# Altium integrated library TI_Logic_Little_Logic.IntLib: 1164 symbols (part 23 of 35)
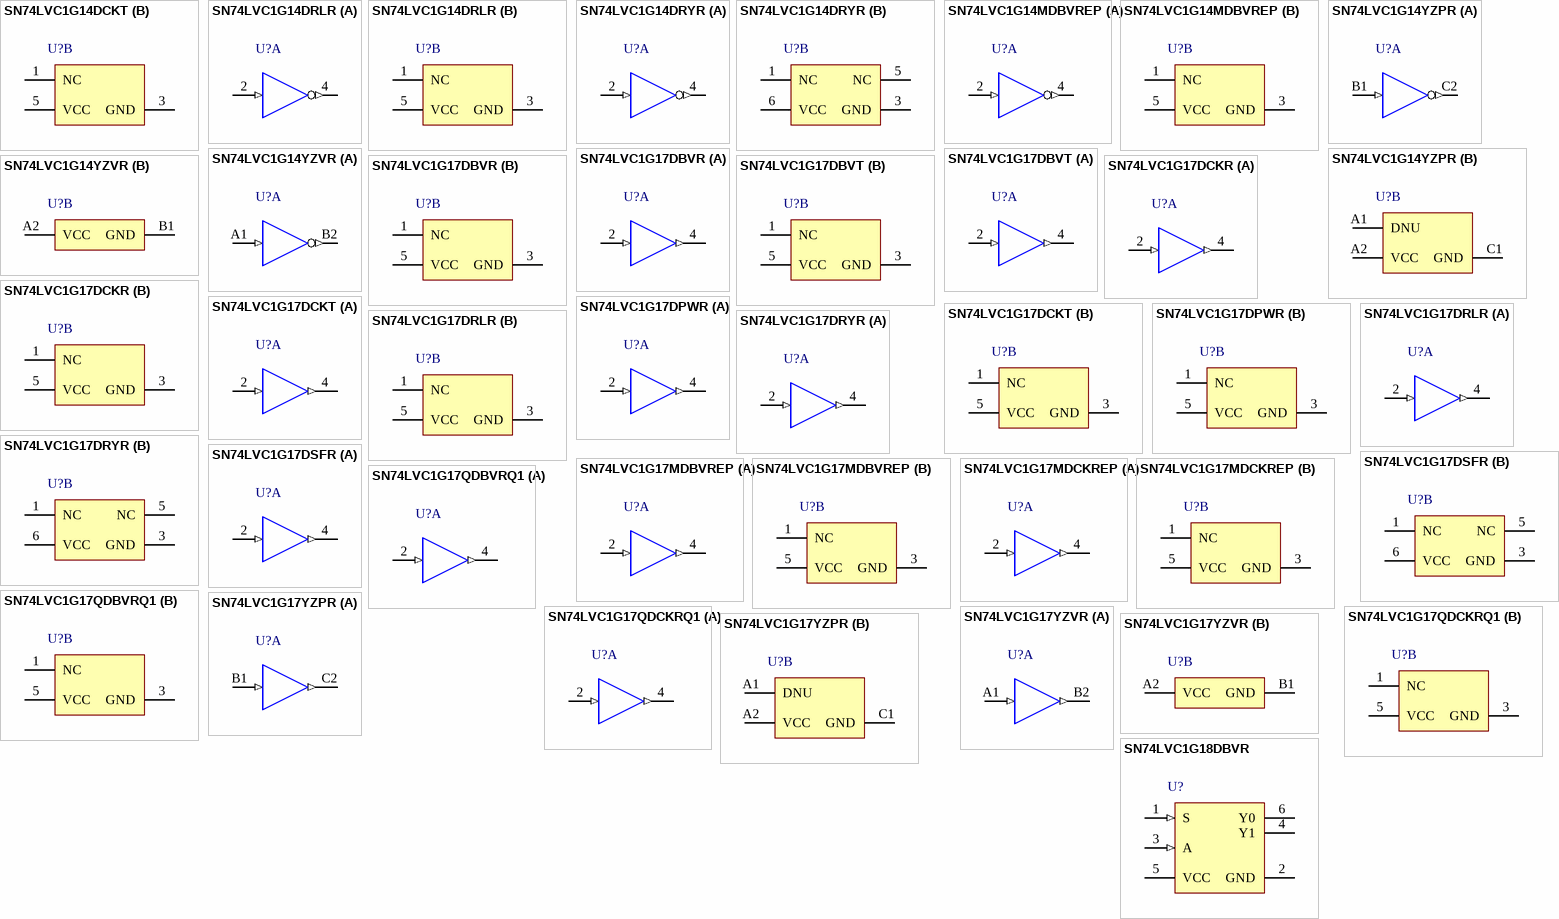
[diagram p82: symbols SN74LVC1G14DCKT to SN74LVC1G18DBVR]

## SN74LVC1G17DCKR
designator U?
Single Schmitt-Trigger Buffer, DCK0005A, LARGE T&R; Generic Part Number: SN74LVC1G17; Manufacturer: Texas Instruments; PartNumber: SN74LVC1G17DCKR; VCC(Min)(V): 1.65; VCC(Max)(V): 5.5; Output Type: CMOS; ICC @ Nom Voltage(Max)(mA): 0.01; Input Type: CMOS/TTL; Bits(#): 1; F @ Nom Voltage(Max)(Mhz): 150; Rating: Catalog; Technology Family: LVC; Voltage(Nom)(V): 1.8,2.5,3.3,5; Schmitt Trigger: Yes; Output Drive (IOL/IOH)(Max)(mA): 32/-32; tpd @ Nom Voltage(Max)(ns): 11,6.5,5.5,5; Logic: True; Sub-Family: Non-Inverting Buffer/Driver; 3-State Output: No; DatasheetVersion: SCES351V; PackageReference: DCK0005A; Supplier 1: Mouser; Supplier Part Number 1: 595-SN74LVC1G17DCKR; Supplier 2: Digi-Key; Supplier Part Number 2: 296-11934-2-ND; Supplier 3: Digi-Key; Supplier Part Number 3: 296-11934-1-ND; Supplier 4: Digi-Key; Supplier Part Number 4: 296-11934-6-ND; Operating Temperature Range(C): -40 to 125,-40 to 85; ComponentLink1Description: Manufacturer URL; ComponentLink1URL: http://www.ti.com/; ComponentLink2Description: Datasheet; ComponentLink2URL: http://www.ti.com/lit/ds/symlink/sn74lvc1g17.pdf
footprint DCK0005A_N (SOT23, 5-Leads, Body 2.15x1.4mm, Pitch 0.65mm, IPC Medium Density)
footprint DCK0005A_M (SOT23, 5-Leads, Body 2.15x1.4mm, Pitch 0.65mm, IPC Low Density)
footprint DCK0005A_L (SOT23, 5-Leads, Body 2.15x1.4mm, Pitch 0.65mm, IPC High Density)
part A pins: 2 A (in) "Input", 4 Y (out) "Output"
part B pins: 1 NC "Ground", 3 GND (power) "Ground Pin", 5 VCC (power) "Power Pin"

## SN74LVC1G17DCKT
designator U?
Single Schmitt-Trigger Buffer, DCK0005A, SMALL T&R; Generic Part Number: SN74LVC1G17; Manufacturer: Texas Instruments; PartNumber: SN74LVC1G17DCKT; VCC(Min)(V): 1.65; VCC(Max)(V): 5.5; Output Type: CMOS; ICC @ Nom Voltage(Max)(mA): 0.01; Input Type: CMOS/TTL; Bits(#): 1; F @ Nom Voltage(Max)(Mhz): 150; Rating: Catalog; Technology Family: LVC; Voltage(Nom)(V): 1.8,2.5,3.3,5; Schmitt Trigger: Yes; Output Drive (IOL/IOH)(Max)(mA): 32/-32; tpd @ Nom Voltage(Max)(ns): 11,6.5,5.5,5; Logic: True; Sub-Family: Non-Inverting Buffer/Driver; 3-State Output: No; DatasheetVersion: SCES351V; PackageReference: DCK0005A; Supplier 1: Mouser; Supplier Part Number 1: 595-SN74LVC1G17DCKT; Supplier 2: Digi-Key; Supplier Part Number 2: 296-26600-2-ND; Supplier 3: Digi-Key; Supplier Part Number 3: 296-26600-1-ND; Supplier 4: Digi-Key; Supplier Part Number 4: 296-26600-6-ND; Operating Temperature Range(C): -40 to 125,-40 to 85; ComponentLink1Description: Manufacturer URL; ComponentLink1URL: http://www.ti.com/; ComponentLink2Description: Datasheet; ComponentLink2URL: http://www.ti.com/lit/ds/symlink/sn74lvc1g17.pdf
footprint DCK0005A_N (SOT23, 5-Leads, Body 2.15x1.4mm, Pitch 0.65mm, IPC Medium Density)
footprint DCK0005A_M (SOT23, 5-Leads, Body 2.15x1.4mm, Pitch 0.65mm, IPC Low Density)
footprint DCK0005A_L (SOT23, 5-Leads, Body 2.15x1.4mm, Pitch 0.65mm, IPC High Density)
part A pins: 2 A (in) "Input", 4 Y (out) "Output"
part B pins: 1 NC "Ground", 3 GND (power) "Ground Pin", 5 VCC (power) "Power Pin"

## SN74LVC1G17DPWR
designator U?
Single Schmitt-Trigger Buffer, DPW0004A, LARGE T&R; Generic Part Number: SN74LVC1G17; Manufacturer: Texas Instruments; PartNumber: SN74LVC1G17DPWR; VCC(Min)(V): 1.65; VCC(Max)(V): 5.5; Output Type: CMOS; ICC @ Nom Voltage(Max)(mA): 0.01; Input Type: CMOS/TTL; Bits(#): 1; F @ Nom Voltage(Max)(Mhz): 150; Rating: Catalog; Technology Family: LVC; Voltage(Nom)(V): 1.8,2.5,3.3,5; Schmitt Trigger: Yes; Output Drive (IOL/IOH)(Max)(mA): 32/-32; tpd @ Nom Voltage(Max)(ns): 11,6.5,5.5,5; Logic: True; Sub-Family: Non-Inverting Buffer/Driver; 3-State Output: No; DatasheetVersion: SCES351V; PackageReference: DPW0004A; Supplier 1: Mouser; Supplier Part Number 1: 595-SN74LVC1G17DPWR; Supplier 2: Digi-Key; Supplier Part Number 2: 296-40550-2-ND; Supplier 3: Digi-Key; Supplier Part Number 3: 296-40550-1-ND; Supplier 4: Digi-Key; Supplier Part Number 4: 296-40550-6-ND; Operating Temperature Range(C): -40 to 125,-40 to 85; ComponentLink1Description: Manufacturer URL; ComponentLink1URL: http://www.ti.com/; ComponentLink2Description: Datasheet; ComponentLink2URL: http://www.ti.com/lit/ds/symlink/sn74lvc1g17.pdf
footprint DPW0004A_V (SON, 5-Leads, Body 0.8x0.8mm, TI Recommend)
part A pins: 2 A (in) "Input", 4 Y (out) "Output"
part B pins: 1 NC "Ground", 3 GND (power) "Ground Pin", 5 VCC (power) "Power Pin"

## SN74LVC1G17DRLR
designator U?
Single Schmitt-Trigger Buffer, DRL0005A, LARGE T&R; Generic Part Number: SN74LVC1G17; Manufacturer: Texas Instruments; PartNumber: SN74LVC1G17DRLR; VCC(Min)(V): 1.65; VCC(Max)(V): 5.5; Output Type: CMOS; ICC @ Nom Voltage(Max)(mA): 0.01; Input Type: CMOS/TTL; Bits(#): 1; F @ Nom Voltage(Max)(Mhz): 150; Rating: Catalog; Technology Family: LVC; Voltage(Nom)(V): 1.8,2.5,3.3,5; Schmitt Trigger: Yes; Output Drive (IOL/IOH)(Max)(mA): 32/-32; tpd @ Nom Voltage(Max)(ns): 11,6.5,5.5,5; Logic: True; Sub-Family: Non-Inverting Buffer/Driver; 3-State Output: No; DatasheetVersion: SCES351V; PackageReference: DRL0005A; Supplier 1: Mouser; Supplier Part Number 1: 595-SN74LVC1G17DRLR; Supplier 2: Digi-Key; Supplier Part Number 2: 296-18585-2-ND; Supplier 3: Digi-Key; Supplier Part Number 3: 296-18585-1-ND; Supplier 4: Digi-Key; Supplier Part Number 4: 296-18585-6-ND; Operating Temperature Range(C): -40 to 125,-40 to 85; ComponentLink1Description: Manufacturer URL; ComponentLink1URL: http://www.ti.com/; ComponentLink2Description: Datasheet; ComponentLink2URL: http://www.ti.com/lit/ds/symlink/sn74lvc1g17.pdf
footprint DRL0005A_N (SOT23, 5-Leads, Body 1.7x1.3mm, Pitch 0.5mm, IPC Medium Density)
footprint DRL0005A_M (SOT23, 5-Leads, Body 1.7x1.3mm, Pitch 0.5mm, IPC Low Density)
footprint DRL0005A_L (SOT23, 5-Leads, Body 1.7x1.3mm, Pitch 0.5mm, IPC High Density)
part A pins: 2 A (in) "Input", 4 Y (out) "Output"
part B pins: 1 NC "Ground", 3 GND (power) "Ground Pin", 5 VCC (power) "Power Pin"

## SN74LVC1G17DRYR
designator U?
Single Schmitt-Trigger Buffer, DRY0006A, LARGE T&R; Generic Part Number: SN74LVC1G17; Manufacturer: Texas Instruments; PartNumber: SN74LVC1G17DRYR; VCC(Min)(V): 1.65; VCC(Max)(V): 5.5; Output Type: CMOS; ICC @ Nom Voltage(Max)(mA): 0.01; Input Type: CMOS/TTL; Bits(#): 1; F @ Nom Voltage(Max)(Mhz): 150; Rating: Catalog; Technology Family: LVC; Voltage(Nom)(V): 1.8,2.5,3.3,5; Schmitt Trigger: Yes; Output Drive (IOL/IOH)(Max)(mA): 32/-32; tpd @ Nom Voltage(Max)(ns): 11,6.5,5.5,5; Logic: True; Sub-Family: Non-Inverting Buffer/Driver; 3-State Output: No; DatasheetVersion: SCES351V; PackageReference: DRY0006A; Supplier 1: Mouser; Supplier Part Number 1: 595-SN74LVC1G17DRYR; Supplier 2: Digi-Key; Supplier Part Number 2: 296-21546-2-ND; Supplier 3: Digi-Key; Supplier Part Number 3: 296-21546-1-ND; Supplier 4: Digi-Key; Supplier Part Number 4: 296-21546-6-ND; Operating Temperature Range(C): -40 to 125,-40 to 85; ComponentLink1Description: Manufacturer URL; ComponentLink1URL: http://www.ti.com/; ComponentLink2Description: Datasheet; ComponentLink2URL: http://www.ti.com/lit/ds/symlink/sn74lvc1g17.pdf
footprint DRY0006A_V (SON, 6-Leads, Body 1.45x1mm, Pitch 0.5mm)
part A pins: 2 A (in) "Input", 4 Y (out) "Output"
part B pins: 1 NC "Not connected", 3 GND (power) "Ground", 5 NC "Not connected", 6 VCC (power) "Power pin"

## SN74LVC1G17DSFR
designator U?
Single Schmitt-Trigger Buffer, DSF0006A, LARGE T&R; Generic Part Number: SN74LVC1G17; Manufacturer: Texas Instruments; PartNumber: SN74LVC1G17DSFR; VCC(Min)(V): 1.65; VCC(Max)(V): 5.5; Output Type: CMOS; ICC @ Nom Voltage(Max)(mA): 0.01; Input Type: CMOS/TTL; Bits(#): 1; F @ Nom Voltage(Max)(Mhz): 150; Rating: Catalog; Technology Family: LVC; Voltage(Nom)(V): 1.8,2.5,3.3,5; Schmitt Trigger: Yes; Output Drive (IOL/IOH)(Max)(mA): 32/-32; tpd @ Nom Voltage(Max)(ns): 11,6.5,5.5,5; Logic: True; Sub-Family: Non-Inverting Buffer/Driver; 3-State Output: No; DatasheetVersion: SCES351V; PackageReference: DSF0006A; Supplier 1: Mouser; Supplier Part Number 1: 595-SN74LVC1G17DSFR; Supplier 2: Digi-Key; Supplier Part Number 2: 296-29050-2-ND; Supplier 3: Digi-Key; Supplier Part Number 3: 296-29050-1-ND; Supplier 4: Digi-Key; Supplier Part Number 4: 296-29050-6-ND; Operating Temperature Range(C): -40 to 125,-40 to 85; ComponentLink1Description: Manufacturer URL; ComponentLink1URL: http://www.ti.com/; ComponentLink2Description: Datasheet; ComponentLink2URL: http://www.ti.com/lit/ds/symlink/sn74lvc1g17.pdf
footprint DSF0006A_V (SON, 6-Leads, Body 1x1mm, Pitch 0.35mm, TI Recommend)
part A pins: 2 A (in) "Input", 4 Y (out) "Output"
part B pins: 1 NC "Not connected", 3 GND (power) "Ground", 5 NC "Not connected", 6 VCC (power) "Power pin"

## SN74LVC1G17MDBVREP
designator U?
Enhanced Product Single Schmitt-Trigger Buffer, DBV0005A, LARGE T&R; Generic Part Number: SN74LVC1G17-EP; Manufacturer: Texas Instruments; PartNumber: SN74LVC1G17MDBVREP; VCC(Min)(V): 1.65; VCC(Max)(V): 6.5; Output Type: CMOS; ICC @ Nom Voltage(Max)(mA): 0.01; Input Type: CMOS/TTL; Bits(#): 1; F @ Nom Voltage(Max)(Mhz): 150; Rating: HiRel Enhanced Product; Technology Family: LVC; Voltage(Nom)(V): 1.8,2.5,3.3,5; Schmitt Trigger: Yes; Output Drive (IOL/IOH)(Max)(mA): 32/-32; tpd @ Nom Voltage(Max)(ns): 11,6.5,5.5,5; Logic: True; Sub-Family: Non-Inverting Buffer/Driver; 3-State Output: No; DatasheetVersion: SGLS336A; PackageReference: DBV0005A; Supplier 1: Mouser; Supplier Part Number 1: 595-74LVC1G17MDBVREP; Supplier 2: Digi-Key; Supplier Part Number 2: 296-21818-2-ND; Supplier 3: Digi-Key; Supplier Part Number 3: 296-21818-1-ND; Supplier 4: Digi-Key; Supplier Part Number 4: 296-21818-6-ND; Operating Temperature Range(C): -55 to 125; ComponentLink1Description: Manufacturer URL; ComponentLink1URL: http://www.ti.com/; ComponentLink2Description: Datasheet; ComponentLink2URL: http://www.ti.com/lit/ds/symlink/sn74lvc1g17-ep.pdf
footprint DBV0005A_N (SOT23, 5-Leads, Body 3.05x1.75mm, Pitch 0.95mm, IPC Medium Density)
footprint DBV0005A_M (SOT23, 5-Leads, Body 3.05x1.75mm, Pitch 0.95mm, IPC Low Density)
footprint DBV0005A_L (SOT23, 5-Leads, Body 3.05x1.75mm, Pitch 0.95mm, IPC High Density)
part A pins: 2 A (in) "Input", 4 Y (out) "Output"
part B pins: 1 NC "Ground", 3 GND (power) "Ground Pin", 5 VCC (power) "Power Pin"

## SN74LVC1G17MDCKREP
designator U?
Enhanced Product Single Schmitt-Trigger Buffer, DCK0005A, LARGE T&R; Generic Part Number: SN74LVC1G17-EP; Manufacturer: Texas Instruments; PartNumber: SN74LVC1G17MDCKREP; VCC(Min)(V): 1.65; VCC(Max)(V): 6.5; Output Type: CMOS; ICC @ Nom Voltage(Max)(mA): 0.01; Input Type: CMOS/TTL; Bits(#): 1; F @ Nom Voltage(Max)(Mhz): 150; Rating: HiRel Enhanced Product; Technology Family: LVC; Voltage(Nom)(V): 1.8,2.5,3.3,5; Schmitt Trigger: Yes; Output Drive (IOL/IOH)(Max)(mA): 32/-32; tpd @ Nom Voltage(Max)(ns): 11,6.5,5.5,5; Logic: True; Sub-Family: Non-Inverting Buffer/Driver; 3-State Output: No; DatasheetVersion: SGLS336A; PackageReference: DCK0005A; Supplier 1: Mouser; Supplier Part Number 1: 595-74LVC1G17MDCKREP; Supplier 2: Digi-Key; Supplier Part Number 2: 296-20773-2-ND; Supplier 3: Digi-Key; Supplier Part Number 3: 296-20773-1-ND; Supplier 4: Digi-Key; Supplier Part Number 4: 296-20773-6-ND; Operating Temperature Range(C): -55 to 125; ComponentLink1Description: Manufacturer URL; ComponentLink1URL: http://www.ti.com/; ComponentLink2Description: Datasheet; ComponentLink2URL: http://www.ti.com/lit/ds/symlink/sn74lvc1g17-ep.pdf
footprint DCK0005A_N (SOT23, 5-Leads, Body 2.15x1.4mm, Pitch 0.65mm, IPC Medium Density)
footprint DCK0005A_M (SOT23, 5-Leads, Body 2.15x1.4mm, Pitch 0.65mm, IPC Low Density)
footprint DCK0005A_L (SOT23, 5-Leads, Body 2.15x1.4mm, Pitch 0.65mm, IPC High Density)
part A pins: 2 A (in) "Input", 4 Y (out) "Output"
part B pins: 1 NC "Ground", 3 GND (power) "Ground Pin", 5 VCC (power) "Power Pin"

## SN74LVC1G17QDBVRQ1
designator U?
Automotive Catalog Single Schmitt-Trigger Buffer, DBV0005A, LARGE T&R; Generic Part Number: SN74LVC1G17-Q1; Manufacturer: Texas Instruments; PartNumber: SN74LVC1G17QDBVRQ1; VCC(Min)(V): 1.65; VCC(Max)(V): 6.5; Output Type: CMOS; ICC @ Nom Voltage(Max)(mA): 0.02; Input Type: CMOS/TTL; Bits(#): 1; F @ Nom Voltage(Max)(Mhz): 150; Technology Family: LVC; Voltage(Nom)(V): 1.8,2.5,3.3,5; Schmitt Trigger: Yes; Output Drive (IOL/IOH)(Max)(mA): 32/-32; tpd @ Nom Voltage(Max)(ns): 14,9,8,7; Logic: True; Sub-Family: Non-Inverting Buffer/Driver; 3-State Output: No; DatasheetVersion: SCES663A; PackageReference: DBV0005A; Supplier 1: Mouser; Supplier Part Number 1: 595-74LVC1G17QDBVRQ1; Supplier 2: Digi-Key; Supplier Part Number 2: 296-32300-2-ND; Supplier 3: Digi-Key; Supplier Part Number 3: 296-32300-1-ND; Supplier 4: Digi-Key; Supplier Part Number 4: 296-32300-6-ND; Operating Temperature Range(C): -40 to 125; Rating: Automotive; ComponentLink1Description: Manufacturer URL; ComponentLink1URL: http://www.ti.com/; ComponentLink2Description: Datasheet; ComponentLink2URL: http://www.ti.com/lit/ds/symlink/sn74lvc1g17-q1.pdf
footprint DBV0005A_N (SOT23, 5-Leads, Body 3.05x1.75mm, Pitch 0.95mm, IPC Medium Density)
footprint DBV0005A_M (SOT23, 5-Leads, Body 3.05x1.75mm, Pitch 0.95mm, IPC Low Density)
footprint DBV0005A_L (SOT23, 5-Leads, Body 3.05x1.75mm, Pitch 0.95mm, IPC High Density)
part A pins: 2 A (in) "Input", 4 Y (out) "Output"
part B pins: 1 NC "Ground", 3 GND (power) "Ground Pin", 5 VCC (power) "Power Pin"

## SN74LVC1G17QDCKRQ1
designator U?
Automotive Catalog Single Schmitt-Trigger Buffer, DCK0005A, LARGE T&R; Generic Part Number: SN74LVC1G17-Q1; Manufacturer: Texas Instruments; PartNumber: SN74LVC1G17QDCKRQ1; VCC(Min)(V): 1.65; VCC(Max)(V): 6.5; Output Type: CMOS; ICC @ Nom Voltage(Max)(mA): 0.02; Input Type: CMOS/TTL; Bits(#): 1; F @ Nom Voltage(Max)(Mhz): 150; Technology Family: LVC; Voltage(Nom)(V): 1.8,2.5,3.3,5; Schmitt Trigger: Yes; Output Drive (IOL/IOH)(Max)(mA): 32/-32; tpd @ Nom Voltage(Max)(ns): 14,9,8,7; Logic: True; Sub-Family: Non-Inverting Buffer/Driver; 3-State Output: No; DatasheetVersion: SCES663A; PackageReference: DCK0005A; Supplier 1: Mouser; Supplier Part Number 1: 595-74LVC1G17QDCKRQ1; Supplier 2: Digi-Key; Supplier Part Number 2: 296-23709-2-ND; Supplier 3: Digi-Key; Supplier Part Number 3: 296-23709-1-ND; Supplier 4: Digi-Key; Supplier Part Number 4: 296-23709-6-ND; Operating Temperature Range(C): -40 to 125; Rating: Automotive; ComponentLink1Description: Manufacturer URL; ComponentLink1URL: http://www.ti.com/; ComponentLink2Description: Datasheet; ComponentLink2URL: http://www.ti.com/lit/ds/symlink/sn74lvc1g17-q1.pdf
footprint DCK0005A_N (SOT23, 5-Leads, Body 2.15x1.4mm, Pitch 0.65mm, IPC Medium Density)
footprint DCK0005A_M (SOT23, 5-Leads, Body 2.15x1.4mm, Pitch 0.65mm, IPC Low Density)
footprint DCK0005A_L (SOT23, 5-Leads, Body 2.15x1.4mm, Pitch 0.65mm, IPC High Density)
part A pins: 2 A (in) "Input", 4 Y (out) "Output"
part B pins: 1 NC "Ground", 3 GND (power) "Ground Pin", 5 VCC (power) "Power Pin"

## SN74LVC1G17YZPR
designator U?
Single Schmitt-Trigger Buffer, YZP0005ADAD, LARGE T&R; Generic Part Number: SN74LVC1G17; Manufacturer: Texas Instruments; PartNumber: SN74LVC1G17YZPR; VCC(Min)(V): 1.65; VCC(Max)(V): 5.5; Output Type: CMOS; ICC @ Nom Voltage(Max)(mA): 0.01; Input Type: CMOS/TTL; Bits(#): 1; F @ Nom Voltage(Max)(Mhz): 150; Rating: Catalog; Technology Family: LVC; Voltage(Nom)(V): 1.8,2.5,3.3,5; Schmitt Trigger: Yes; Output Drive (IOL/IOH)(Max)(mA): 32/-32; tpd @ Nom Voltage(Max)(ns): 11,6.5,5.5,5; Logic: True; Sub-Family: Non-Inverting Buffer/Driver; 3-State Output: No; DatasheetVersion: SCES351V; PackageReference: YZP0005ADAD; Supplier 1: Mouser; Supplier Part Number 1: 595-SN74LVC1G17YZPR; Supplier 2: Digi-Key; Supplier Part Number 2: 296-18761-2-ND; Supplier 3: Digi-Key; Supplier Part Number 3: 296-18761-1-ND; Operating Temperature Range(C): -40 to 125,-40 to 85; ComponentLink1Description: Manufacturer URL; ComponentLink1URL: http://www.ti.com/; ComponentLink2Description: Datasheet; ComponentLink2URL: http://www.ti.com/lit/ds/symlink/sn74lvc1g17.pdf
footprint YZP0005ADAD (BGA, 5-Balls, Body 1.39x0.89mm, Pitch 0.5mm)
part A pins: B1 A (in) "Input", C2 Y (out) "Output"
part B pins: A1 DNU "Do not use", A2 VCC (power) "Power", C1 GND (power) "Ground"

## SN74LVC1G17YZVR
designator U?
Single Schmitt-Trigger Buffer, YZV0004ADAD, LARGE T&R; Generic Part Number: SN74LVC1G17; Manufacturer: Texas Instruments; PartNumber: SN74LVC1G17YZVR; VCC(Min)(V): 1.65; VCC(Max)(V): 5.5; Output Type: CMOS; ICC @ Nom Voltage(Max)(mA): 0.01; Input Type: CMOS/TTL; Bits(#): 1; F @ Nom Voltage(Max)(Mhz): 150; Rating: Catalog; Technology Family: LVC; Voltage(Nom)(V): 1.8,2.5,3.3,5; Schmitt Trigger: Yes; Output Drive (IOL/IOH)(Max)(mA): 32/-32; tpd @ Nom Voltage(Max)(ns): 11,6.5,5.5,5; Logic: True; Sub-Family: Non-Inverting Buffer/Driver; 3-State Output: No; DatasheetVersion: SCES351V; PackageReference: YZV0004ADAD; Supplier 1: Mouser; Supplier Part Number 1: 595-SN74LVC1G17YZVR; Supplier 2: Digi-Key; Supplier Part Number 2: 296-21060-2-ND; Supplier 3: Digi-Key; Supplier Part Number 3: 296-21060-1-ND; Supplier 4: Digi-Key; Supplier Part Number 4: 296-21060-6-ND; Operating Temperature Range(C): -40 to 125,-40 to 85; ComponentLink1Description: Manufacturer URL; ComponentLink1URL: http://www.ti.com/; ComponentLink2Description: Datasheet; ComponentLink2URL: http://www.ti.com/lit/ds/symlink/sn74lvc1g17.pdf
footprint YZV0004ADAD (BGA, 4-Balls, Body 0.89x0.89mm, Pitch 0.5mm)
part A pins: A1 A (in) "Input", B2 Y (out) "Output"
part B pins: A2 VCC (power) "Power pin", B1 GND (power) "Ground"

## SN74LVC1G18DBVR
designator U?
One of Two Noninverting Demultiplexer with 3-State Deselected Output, DBV0006A, LARGE T&R; Generic Part Number: SN74LVC1G18; Manufacturer: Texas Instruments; PartNumber: SN74LVC1G18DBVR; VCC(Min)(V): 1.65; VCC(Max)(V): 5.5; Output Type: CMOS; ICC @ Nom Voltage(Max)(mA): 0.01; Input Type: CMOS/TTL; Bits(#): 1; F @ Nom Voltage(Max)(Mhz): 150; Rating: Catalog; Technology Family: LVC; Voltage(Nom)(V): 1.8,2.5,3.3,5; Schmitt Trigger: No; Output Drive (IOL/IOH)(Max)(mA): 32/-32; tpd @ Nom Voltage(Max)(ns): 9.3,5,4.2,3.2; Logic: True; Sub-Family: Decoder/Encoder/Multiplexer; DatasheetVersion: SCES406K; PackageReference: DBV0006A; Supplier 1: Mouser; Supplier Part Number 1: 595-SN74LVC1G18DBVR; Supplier 2: Digi-Key; Supplier Part Number 2: 296-15568-2-ND; Supplier 3: Digi-Key; Supplier Part Number 3: 296-15568-1-ND; Supplier 4: Digi-Key; Supplier Part Number 4: 296-15568-6-ND; Operating Temperature Range(C): -40 to 85; Specialty Logic Family: Decoder/Encoder/Multiplexer; 3-State Output: No; ComponentLink1Description: Manufacturer URL; ComponentLink1URL: http://www.ti.com/; ComponentLink2Description: Datasheet; ComponentLink2URL: http://www.ti.com/lit/ds/symlink/sn74lvc1g18.pdf
footprint DBV0006A_N (SOT23, 6-Leads, Body 3.05x1.75mm, Pitch 0.95mm, IPC Medium Density)
footprint DBV0006A_M (SOT23, 6-Leads, Body 3.05x1.75mm, Pitch 0.95mm, IPC Low Density)
footprint DBV0006A_L (SOT23, 6-Leads, Body 3.05x1.75mm, Pitch 0.95mm, IPC High Density)
pins: 1 S (in), 2 GND (power), 3 A (in), 4 Y1 (hiz), 5 VCC (power), 6 Y0 (hiz)

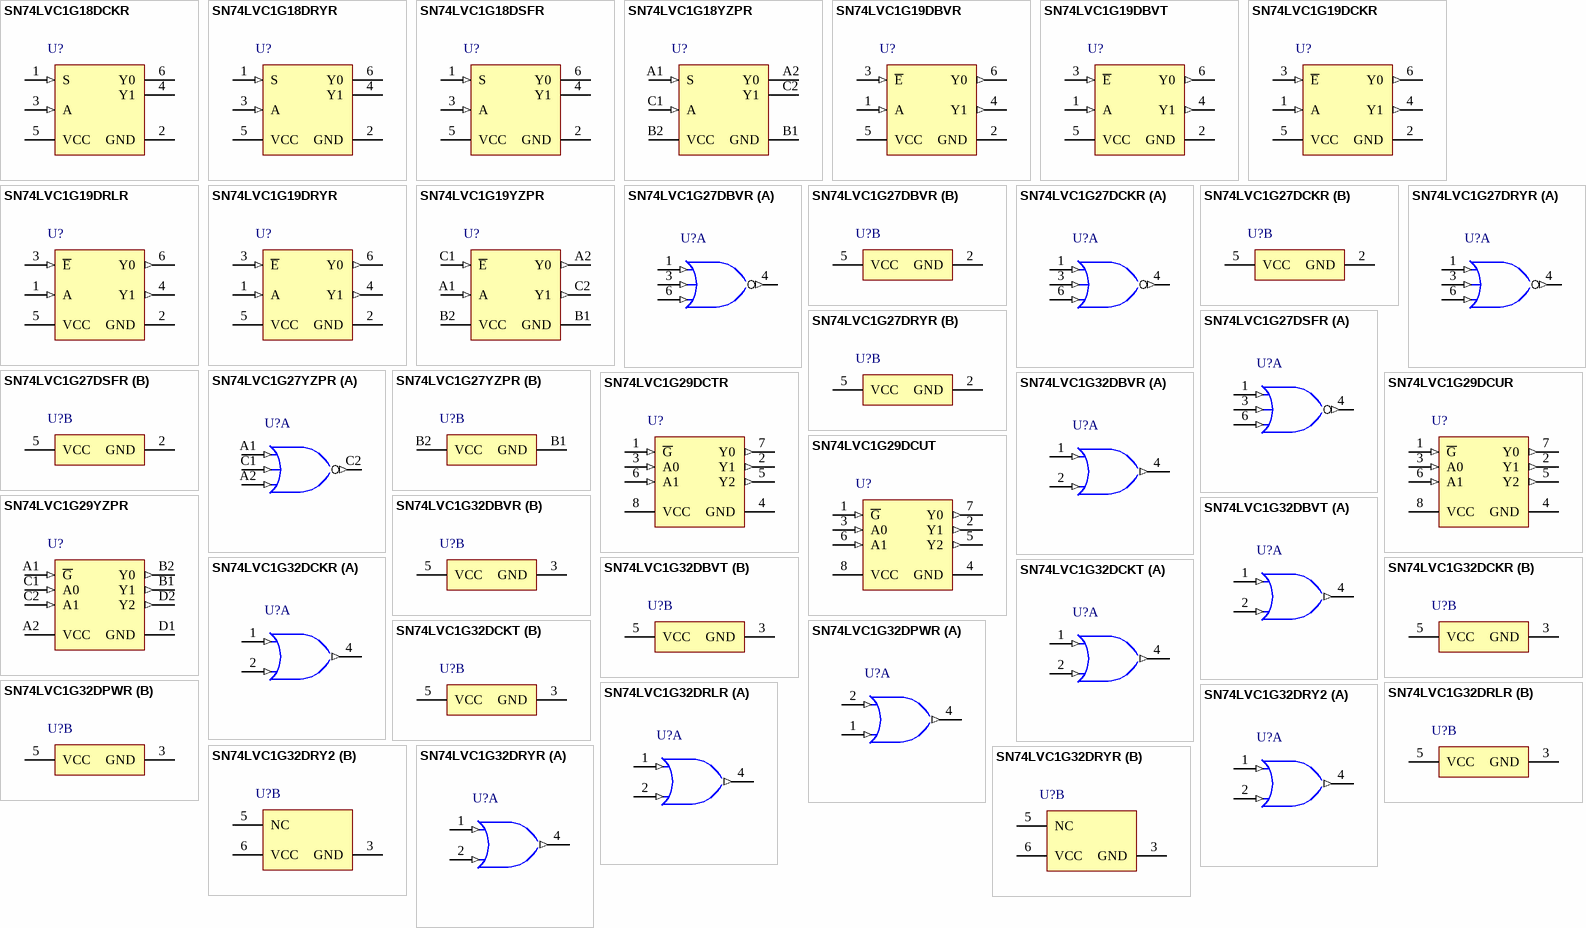
[diagram p39: symbols SN74LVC1G18DCKR to SN74LVC1G32DRYR]

## SN74LVC1G18DCKR
designator U?
One of Two Noninverting Demultiplexer with 3-State Deselected Output, DCK0006A, LARGE T&R; Generic Part Number: SN74LVC1G18; Manufacturer: Texas Instruments; PartNumber: SN74LVC1G18DCKR; VCC(Min)(V): 1.65; VCC(Max)(V): 5.5; Output Type: CMOS; ICC @ Nom Voltage(Max)(mA): 0.01; Input Type: CMOS/TTL; Bits(#): 1; F @ Nom Voltage(Max)(Mhz): 150; Rating: Catalog; Technology Family: LVC; Voltage(Nom)(V): 1.8,2.5,3.3,5; Schmitt Trigger: No; Output Drive (IOL/IOH)(Max)(mA): 32/-32; tpd @ Nom Voltage(Max)(ns): 9.3,5,4.2,3.2; Logic: True; Sub-Family: Decoder/Encoder/Multiplexer; DatasheetVersion: SCES406K; PackageReference: DCK0006A; Supplier 1: Mouser; Supplier Part Number 1: 595-SN74LVC1G18DCKR; Supplier 2: Digi-Key; Supplier Part Number 2: 296-15569-2-ND; Supplier 3: Digi-Key; Supplier Part Number 3: 296-15569-1-ND; Supplier 4: Digi-Key; Supplier Part Number 4: 296-15569-6-ND; Operating Temperature Range(C): -40 to 85; Specialty Logic Family: Decoder/Encoder/Multiplexer; 3-State Output: No; ComponentLink1Description: Manufacturer URL; ComponentLink1URL: http://www.ti.com/; ComponentLink2Description: Datasheet; ComponentLink2URL: http://www.ti.com/lit/ds/symlink/sn74lvc1g18.pdf
footprint DCK0006A_N (SOT23, 6-Leads, Body 2.15x1.4mm, Pitch 0.65mm, IPC Medium Density)
footprint DCK0006A_M (SOT23, 6-Leads, Body 2.15x1.4mm, Pitch 0.65mm, IPC Low Density)
footprint DCK0006A_L (SOT23, 6-Leads, Body 2.15x1.4mm, Pitch 0.65mm, IPC High Density)
pins: 1 S (in), 2 GND (power), 3 A (in), 4 Y1 (hiz), 5 VCC (power), 6 Y0 (hiz)

## SN74LVC1G18DRYR
designator U?
One of Two Noninverting Demultiplexer with 3-State Deselected Output, DRY0006A, LARGE T&R; Generic Part Number: SN74LVC1G18; Manufacturer: Texas Instruments; PartNumber: SN74LVC1G18DRYR; VCC(Min)(V): 1.65; VCC(Max)(V): 5.5; Output Type: CMOS; ICC @ Nom Voltage(Max)(mA): 0.01; Input Type: CMOS/TTL; Bits(#): 1; F @ Nom Voltage(Max)(Mhz): 150; Rating: Catalog; Technology Family: LVC; Voltage(Nom)(V): 1.8,2.5,3.3,5; Schmitt Trigger: No; Output Drive (IOL/IOH)(Max)(mA): 32/-32; tpd @ Nom Voltage(Max)(ns): 9.3,5,4.2,3.2; Logic: True; Sub-Family: Decoder/Encoder/Multiplexer; DatasheetVersion: SCES406K; PackageReference: DRY0006A; Supplier 1: Mouser; Supplier Part Number 1: 595-SN74LVC1G18DRYR; Supplier 2: Digi-Key; Supplier Part Number 2: 296-30526-2-ND; Supplier 3: Digi-Key; Supplier Part Number 3: 296-30526-1-ND; Supplier 4: Digi-Key; Supplier Part Number 4: 296-30526-6-ND; Operating Temperature Range(C): -40 to 85; Specialty Logic Family: Decoder/Encoder/Multiplexer; 3-State Output: No; ComponentLink1Description: Manufacturer URL; ComponentLink1URL: http://www.ti.com/; ComponentLink2Description: Datasheet; ComponentLink2URL: http://www.ti.com/lit/ds/symlink/sn74lvc1g18.pdf
footprint DRY0006A_V (SON, 6-Leads, Body 1.45x1mm, Pitch 0.5mm)
pins: 1 S (in), 2 GND (power), 3 A (in), 4 Y1 (hiz), 5 VCC (power), 6 Y0 (hiz)

## SN74LVC1G18DSFR
designator U?
One of Two Noninverting Demultiplexer with 3-State Deselected Output, DSF0006A, LARGE T&R; Generic Part Number: SN74LVC1G18; Manufacturer: Texas Instruments; PartNumber: SN74LVC1G18DSFR; VCC(Min)(V): 1.65; VCC(Max)(V): 5.5; Output Type: CMOS; ICC @ Nom Voltage(Max)(mA): 0.01; Input Type: CMOS/TTL; Bits(#): 1; F @ Nom Voltage(Max)(Mhz): 150; Rating: Catalog; Technology Family: LVC; Voltage(Nom)(V): 1.8,2.5,3.3,5; Schmitt Trigger: No; Output Drive (IOL/IOH)(Max)(mA): 32/-32; tpd @ Nom Voltage(Max)(ns): 9.3,5,4.2,3.2; Logic: True; Sub-Family: Decoder/Encoder/Multiplexer; DatasheetVersion: SCES406K; PackageReference: DSF0006A; Supplier 1: Mouser; Supplier Part Number 1: 595-SN74LVC1G18DSFR; Supplier 2: Digi-Key; Supplier Part Number 2: 296-30525-2-ND; Supplier 3: Digi-Key; Supplier Part Number 3: 296-30525-1-ND; Supplier 4: Digi-Key; Supplier Part Number 4: 296-30525-6-ND; Operating Temperature Range(C): -40 to 85; Specialty Logic Family: Decoder/Encoder/Multiplexer; 3-State Output: No; ComponentLink1Description: Manufacturer URL; ComponentLink1URL: http://www.ti.com/; ComponentLink2Description: Datasheet; ComponentLink2URL: http://www.ti.com/lit/ds/symlink/sn74lvc1g18.pdf
footprint DSF0006A_V (SON, 6-Leads, Body 1x1mm, Pitch 0.35mm, TI Recommend)
pins: 1 S (in), 2 GND (power), 3 A (in), 4 Y1 (hiz), 5 VCC (power), 6 Y0 (hiz)

## SN74LVC1G18YZPR
designator U?
One of Two Noninverting Demultiplexer with 3-State Deselected Output, YZP0006ADAD, LARGE T&R; Generic Part Number: SN74LVC1G18; Manufacturer: Texas Instruments; PartNumber: SN74LVC1G18YZPR; VCC(Min)(V): 1.65; VCC(Max)(V): 5.5; Output Type: CMOS; ICC @ Nom Voltage(Max)(mA): 0.01; Input Type: CMOS/TTL; Bits(#): 1; F @ Nom Voltage(Max)(Mhz): 150; Rating: Catalog; Technology Family: LVC; Voltage(Nom)(V): 1.8,2.5,3.3,5; Schmitt Trigger: No; Output Drive (IOL/IOH)(Max)(mA): 32/-32; tpd @ Nom Voltage(Max)(ns): 9.3,5,4.2,3.2; Logic: True; Sub-Family: Decoder/Encoder/Multiplexer; DatasheetVersion: SCES406K; PackageReference: YZP0006ADAD; Supplier 1: Mouser; Supplier Part Number 1: 595-SN74LVC1G18YZPR; Supplier 2: Digi-Key; Supplier Part Number 2: 296-25657-2-ND; Supplier 3: Digi-Key; Supplier Part Number 3: 296-25657-1-ND; Supplier 4: Digi-Key; Supplier Part Number 4: 296-25657-6-ND; Operating Temperature Range(C): -40 to 85; Specialty Logic Family: Decoder/Encoder/Multiplexer; 3-State Output: No; ComponentLink1Description: Manufacturer URL; ComponentLink1URL: http://www.ti.com/; ComponentLink2Description: Datasheet; ComponentLink2URL: http://www.ti.com/lit/ds/symlink/sn74lvc1g18.pdf
footprint YZP0006ADAD (BGA, 6-Balls, Body 1.39x0.89mm, Pitch 0.5mm)
pins: A1 S (in), A2 Y0 (hiz), B1 GND (power), B2 VCC (power), C1 A (in), C2 Y1 (hiz)

## SN74LVC1G19DBVR
designator U?
1-of-2 Decoder/Demultiplexer, DBV0006A, LARGE T&R; Generic Part Number: SN74LVC1G19; Manufacturer: Texas Instruments; PartNumber: SN74LVC1G19DBVR; VCC(Min)(V): 1.65; VCC(Max)(V): 5.5; Output Type: CMOS; ICC @ Nom Voltage(Max)(mA): 0.01; Input Type: CMOS/TTL; Bits(#): 1; F @ Nom Voltage(Max)(Mhz): 150; Rating: Catalog; Technology Family: LVC; Voltage(Nom)(V): 1.8,2.5,3.3,5; Schmitt Trigger: No; Output Drive (IOL/IOH)(Max)(mA): 32/-32; tpd @ Nom Voltage(Max)(ns): 16.1,6.5,5.2,3.9; Logic: True; Sub-Family: Decoder/Encoder/Multiplexer; DatasheetVersion: SCES464F; PackageReference: DBV0006A; Supplier 1: Mouser; Supplier Part Number 1: 595-SN74LVC1G19DBVR; Supplier 2: Digi-Key; Supplier Part Number 2: 296-16982-2-ND; Supplier 3: Digi-Key; Supplier Part Number 3: 296-16982-1-ND; Supplier 4: Digi-Key; Supplier Part Number 4: 296-16982-6-ND; Operating Temperature Range(C): -40 to 85; Specialty Logic Family: Decoder/Encoder/Multiplexer; 3-State Output: No; ComponentLink1Description: Manufacturer URL; ComponentLink1URL: http://www.ti.com/; ComponentLink2Description: Datasheet; ComponentLink2URL: http://www.ti.com/lit/ds/symlink/sn74lvc1g19.pdf
footprint DBV0006A_N (SOT23, 6-Leads, Body 3.05x1.75mm, Pitch 0.95mm, IPC Medium Density)
footprint DBV0006A_M (SOT23, 6-Leads, Body 3.05x1.75mm, Pitch 0.95mm, IPC Low Density)
footprint DBV0006A_L (SOT23, 6-Leads, Body 3.05x1.75mm, Pitch 0.95mm, IPC High Density)
pins: 1 A (in), 2 GND (power), 3 ~{E} (in), 4 Y1 (out), 5 VCC (power), 6 Y0 (out)

## SN74LVC1G19DBVT
designator U?
1-of-2 Decoder/Demultiplexer, DBV0006A, SMALL T&R; Generic Part Number: SN74LVC1G19; Manufacturer: Texas Instruments; PartNumber: SN74LVC1G19DBVT; VCC(Min)(V): 1.65; VCC(Max)(V): 5.5; Output Type: CMOS; ICC @ Nom Voltage(Max)(mA): 0.01; Input Type: CMOS/TTL; Bits(#): 1; F @ Nom Voltage(Max)(Mhz): 150; Rating: Catalog; Technology Family: LVC; Voltage(Nom)(V): 1.8,2.5,3.3,5; Schmitt Trigger: No; Output Drive (IOL/IOH)(Max)(mA): 32/-32; tpd @ Nom Voltage(Max)(ns): 16.1,6.5,5.2,3.9; Logic: True; Sub-Family: Decoder/Encoder/Multiplexer; DatasheetVersion: SCES464F; PackageReference: DBV0006A; Supplier 1: Mouser; Supplier Part Number 1: 595-SN74LVC1G19DBVT; Supplier 2: Digi-Key; Supplier Part Number 2: SN74LVC1G19DBVT-ND; Operating Temperature Range(C): -40 to 85; Specialty Logic Family: Decoder/Encoder/Multiplexer; 3-State Output: No; ComponentLink1Description: Manufacturer URL; ComponentLink1URL: http://www.ti.com/; ComponentLink2Description: Datasheet; ComponentLink2URL: http://www.ti.com/lit/ds/symlink/sn74lvc1g19.pdf
footprint DBV0006A_N (SOT23, 6-Leads, Body 3.05x1.75mm, Pitch 0.95mm, IPC Medium Density)
footprint DBV0006A_M (SOT23, 6-Leads, Body 3.05x1.75mm, Pitch 0.95mm, IPC Low Density)
footprint DBV0006A_L (SOT23, 6-Leads, Body 3.05x1.75mm, Pitch 0.95mm, IPC High Density)
pins: 1 A (in), 2 GND (power), 3 ~{E} (in), 4 Y1 (out), 5 VCC (power), 6 Y0 (out)

## SN74LVC1G19DCKR
designator U?
1-of-2 Decoder/Demultiplexer, DCK0006A, LARGE T&R; Generic Part Number: SN74LVC1G19; Manufacturer: Texas Instruments; PartNumber: SN74LVC1G19DCKR; VCC(Min)(V): 1.65; VCC(Max)(V): 5.5; Output Type: CMOS; ICC @ Nom Voltage(Max)(mA): 0.01; Input Type: CMOS/TTL; Bits(#): 1; F @ Nom Voltage(Max)(Mhz): 150; Rating: Catalog; Technology Family: LVC; Voltage(Nom)(V): 1.8,2.5,3.3,5; Schmitt Trigger: No; Output Drive (IOL/IOH)(Max)(mA): 32/-32; tpd @ Nom Voltage(Max)(ns): 16.1,6.5,5.2,3.9; Logic: True; Sub-Family: Decoder/Encoder/Multiplexer; DatasheetVersion: SCES464F; PackageReference: DCK0006A; Supplier 1: Mouser; Supplier Part Number 1: 595-SN74LVC1G19DCKR; Supplier 2: Digi-Key; Supplier Part Number 2: 296-17991-2-ND; Supplier 3: Digi-Key; Supplier Part Number 3: 296-17991-1-ND; Supplier 4: Digi-Key; Supplier Part Number 4: 296-17991-6-ND; Operating Temperature Range(C): -40 to 85; Specialty Logic Family: Decoder/Encoder/Multiplexer; 3-State Output: No; ComponentLink1Description: Manufacturer URL; ComponentLink1URL: http://www.ti.com/; ComponentLink2Description: Datasheet; ComponentLink2URL: http://www.ti.com/lit/ds/symlink/sn74lvc1g19.pdf
footprint DCK0006A_N (SOT23, 6-Leads, Body 2.15x1.4mm, Pitch 0.65mm, IPC Medium Density)
footprint DCK0006A_M (SOT23, 6-Leads, Body 2.15x1.4mm, Pitch 0.65mm, IPC Low Density)
footprint DCK0006A_L (SOT23, 6-Leads, Body 2.15x1.4mm, Pitch 0.65mm, IPC High Density)
pins: 1 A (in), 2 GND (power), 3 ~{E} (in), 4 Y1 (out), 5 VCC (power), 6 Y0 (out)

## SN74LVC1G19DRLR
designator U?
1-of-2 Decoder/Demultiplexer, DRL0006A, LARGE T&R; Generic Part Number: SN74LVC1G19; Manufacturer: Texas Instruments; PartNumber: SN74LVC1G19DRLR; VCC(Min)(V): 1.65; VCC(Max)(V): 5.5; Output Type: CMOS; ICC @ Nom Voltage(Max)(mA): 0.01; Input Type: CMOS/TTL; Bits(#): 1; F @ Nom Voltage(Max)(Mhz): 150; Rating: Catalog; Technology Family: LVC; Voltage(Nom)(V): 1.8,2.5,3.3,5; Schmitt Trigger: No; Output Drive (IOL/IOH)(Max)(mA): 32/-32; tpd @ Nom Voltage(Max)(ns): 16.1,6.5,5.2,3.9; Logic: True; Sub-Family: Decoder/Encoder/Multiplexer; DatasheetVersion: SCES464F; PackageReference: DRL0006A; Supplier 1: Mouser; Supplier Part Number 1: 595-SN74LVC1G19DRLR; Supplier 2: Digi-Key; Supplier Part Number 2: 296-18319-2-ND; Supplier 3: Digi-Key; Supplier Part Number 3: 296-18319-1-ND; Supplier 4: Digi-Key; Supplier Part Number 4: 296-18319-6-ND; Operating Temperature Range(C): -40 to 85; Specialty Logic Family: Decoder/Encoder/Multiplexer; 3-State Output: No; ComponentLink1Description: Manufacturer URL; ComponentLink1URL: http://www.ti.com/; ComponentLink2Description: Datasheet; ComponentLink2URL: http://www.ti.com/lit/ds/symlink/sn74lvc1g19.pdf
footprint DRL0006A_N (SOT23, 6-Leads, Body 1.7x1.3mm, Pitch 0.5mm, IPC Medium Density)
footprint DRL0006A_M (SOT23, 6-Leads, Body 1.7x1.3mm, Pitch 0.5mm, IPC Low Density)
footprint DRL0006A_L (SOT23, 6-Leads, Body 1.7x1.3mm, Pitch 0.5mm, IPC High Density)
pins: 1 A (in), 2 GND (power), 3 ~{E} (in), 4 Y1 (out), 5 VCC (power), 6 Y0 (out)

## SN74LVC1G19DRYR
designator U?
1-of-2 Decoder/Demultiplexer, DRY0006A, LARGE T&R; Generic Part Number: SN74LVC1G19; Manufacturer: Texas Instruments; PartNumber: SN74LVC1G19DRYR; VCC(Min)(V): 1.65; VCC(Max)(V): 5.5; Output Type: CMOS; ICC @ Nom Voltage(Max)(mA): 0.01; Input Type: CMOS/TTL; Bits(#): 1; F @ Nom Voltage(Max)(Mhz): 150; Rating: Catalog; Technology Family: LVC; Voltage(Nom)(V): 1.8,2.5,3.3,5; Schmitt Trigger: No; Output Drive (IOL/IOH)(Max)(mA): 32/-32; tpd @ Nom Voltage(Max)(ns): 16.1,6.5,5.2,3.9; Logic: True; Sub-Family: Decoder/Encoder/Multiplexer; DatasheetVersion: SCES464F; PackageReference: DRY0006A; Supplier 1: Mouser; Supplier Part Number 1: 595-SN74LVC1G19DRYR; Supplier 2: Digi-Key; Supplier Part Number 2: 296-21547-2-ND; Supplier 3: Digi-Key; Supplier Part Number 3: 296-21547-1-ND; Supplier 4: Digi-Key; Supplier Part Number 4: 296-21547-6-ND; Operating Temperature Range(C): -40 to 85; Specialty Logic Family: Decoder/Encoder/Multiplexer; 3-State Output: No; ComponentLink1Description: Manufacturer URL; ComponentLink1URL: http://www.ti.com/; ComponentLink2Description: Datasheet; ComponentLink2URL: http://www.ti.com/lit/ds/symlink/sn74lvc1g19.pdf
footprint DRY0006A_V (SON, 6-Leads, Body 1.45x1mm, Pitch 0.5mm)
pins: 1 A (in), 2 GND (power), 3 ~{E} (in), 4 Y1 (out), 5 VCC (power), 6 Y0 (out)

## SN74LVC1G19YZPR
designator U?
1-of-2 Decoder/Demultiplexer, YZP0006ADAD, LARGE T&R; Generic Part Number: SN74LVC1G19; Manufacturer: Texas Instruments; PartNumber: SN74LVC1G19YZPR; VCC(Min)(V): 1.65; VCC(Max)(V): 5.5; Output Type: CMOS; ICC @ Nom Voltage(Max)(mA): 0.01; Input Type: CMOS/TTL; Bits(#): 1; F @ Nom Voltage(Max)(Mhz): 150; Rating: Catalog; Technology Family: LVC; Voltage(Nom)(V): 1.8,2.5,3.3,5; Schmitt Trigger: No; Output Drive (IOL/IOH)(Max)(mA): 32/-32; tpd @ Nom Voltage(Max)(ns): 16.1,6.5,5.2,3.9; Logic: True; Sub-Family: Decoder/Encoder/Multiplexer; DatasheetVersion: SCES464F; PackageReference: YZP0006ADAD; Supplier 1: Mouser; Supplier Part Number 1: 595-SN74LVC1G19YZPR; Supplier 2: Digi-Key; Supplier Part Number 2: 296-18586-2-ND; Supplier 3: Digi-Key; Supplier Part Number 3: 296-18586-1-ND; Supplier 4: Digi-Key; Supplier Part Number 4: 296-18586-6-ND; Operating Temperature Range(C): -40 to 85; Specialty Logic Family: Decoder/Encoder/Multiplexer; 3-State Output: No; ComponentLink1Description: Manufacturer URL; ComponentLink1URL: http://www.ti.com/; ComponentLink2Description: Datasheet; ComponentLink2URL: http://www.ti.com/lit/ds/symlink/sn74lvc1g19.pdf
footprint YZP0006ADAD (BGA, 6-Balls, Body 1.39x0.89mm, Pitch 0.5mm)
pins: A1 A (in), A2 Y0 (out), B1 GND (power), B2 VCC (power), C1 ~{E} (in), C2 Y1 (out)

## SN74LVC1G27DBVR
designator U?
Single 3-Input Positive-NOR Gate, DBV0006A, LARGE T&R; Generic Part Number: SN74LVC1G27; Manufacturer: Texas Instruments; PartNumber: SN74LVC1G27DBVR; VCC(Min)(V): 1.65; VCC(Max)(V): 5.5; Output Type: CMOS; ICC @ Nom Voltage(Max)(mA): 0.01; Input Type: CMOS/TTL; Bits(#): 1; F @ Nom Voltage(Max)(Mhz): 150; Rating: Catalog; Technology Family: LVC; Voltage(Nom)(V): 1.8,2.5,3.3,5; Schmitt Trigger: No; Output Drive (IOL/IOH)(Max)(mA): 32/-32; tpd @ Nom Voltage(Max)(ns): 20.5,7.1,5.4,3.6; Logic: True; Gate Type: OR; DatasheetVersion: SCES488E; PackageReference: DBV0006A; Supplier 1: Mouser; Supplier Part Number 1: 595-SN74LVC1G27DBVR; Supplier 2: Digi-Key; Supplier Part Number 2: 296-17119-2-ND; Supplier 3: Digi-Key; Supplier Part Number 3: 296-17119-1-ND; Supplier 4: Digi-Key; Supplier Part Number 4: 296-17119-6-ND; Operating Temperature Range(C): -40 to 125,-40 to 85; Sub-Family: NOR Gate; 3-State Output: No; ComponentLink1Description: Manufacturer URL; ComponentLink1URL: http://www.ti.com/; ComponentLink2Description: Datasheet; ComponentLink2URL: http://www.ti.com/lit/ds/symlink/sn74lvc1g27.pdf
footprint DBV0006A_N (SOT23, 6-Leads, Body 3.05x1.75mm, Pitch 0.95mm, IPC Medium Density)
footprint DBV0006A_M (SOT23, 6-Leads, Body 3.05x1.75mm, Pitch 0.95mm, IPC Low Density)
footprint DBV0006A_L (SOT23, 6-Leads, Body 3.05x1.75mm, Pitch 0.95mm, IPC High Density)
part A pins: 1 A (in), 3 B (in), 4 Y (out), 6 C (in)
part B pins: 2 GND (power), 5 VCC (power)

## SN74LVC1G27DCKR
designator U?
Single 3-Input Positive-NOR Gate, DCK0006A, LARGE T&R; Generic Part Number: SN74LVC1G27; Manufacturer: Texas Instruments; PartNumber: SN74LVC1G27DCKR; VCC(Min)(V): 1.65; VCC(Max)(V): 5.5; Output Type: CMOS; ICC @ Nom Voltage(Max)(mA): 0.01; Input Type: CMOS/TTL; Bits(#): 1; F @ Nom Voltage(Max)(Mhz): 150; Rating: Catalog; Technology Family: LVC; Voltage(Nom)(V): 1.8,2.5,3.3,5; Schmitt Trigger: No; Output Drive (IOL/IOH)(Max)(mA): 32/-32; tpd @ Nom Voltage(Max)(ns): 20.5,7.1,5.4,3.6; Logic: True; Gate Type: OR; DatasheetVersion: SCES488E; PackageReference: DCK0006A; Supplier 1: Mouser; Supplier Part Number 1: 595-SN74LVC1G27DCKR; Supplier 2: Digi-Key; Supplier Part Number 2: 296-18764-2-ND; Supplier 3: Digi-Key; Supplier Part Number 3: 296-18764-1-ND; Supplier 4: Digi-Key; Supplier Part Number 4: 296-18764-6-ND; Operating Temperature Range(C): -40 to 125,-40 to 85; Sub-Family: NOR Gate; 3-State Output: No; ComponentLink1Description: Manufacturer URL; ComponentLink1URL: http://www.ti.com/; ComponentLink2Description: Datasheet; ComponentLink2URL: http://www.ti.com/lit/ds/symlink/sn74lvc1g27.pdf
footprint DCK0006A_N (SOT23, 6-Leads, Body 2.15x1.4mm, Pitch 0.65mm, IPC Medium Density)
footprint DCK0006A_M (SOT23, 6-Leads, Body 2.15x1.4mm, Pitch 0.65mm, IPC Low Density)
footprint DCK0006A_L (SOT23, 6-Leads, Body 2.15x1.4mm, Pitch 0.65mm, IPC High Density)
part A pins: 1 A (in), 3 B (in), 4 Y (out), 6 C (in)
part B pins: 2 GND (power), 5 VCC (power)

## SN74LVC1G27DRYR
designator U?
Single 3-Input Positive-NOR Gate, DRY0006A, LARGE T&R; Generic Part Number: SN74LVC1G27; Manufacturer: Texas Instruments; PartNumber: SN74LVC1G27DRYR; VCC(Min)(V): 1.65; VCC(Max)(V): 5.5; Output Type: CMOS; ICC @ Nom Voltage(Max)(mA): 0.01; Input Type: CMOS/TTL; Bits(#): 1; F @ Nom Voltage(Max)(Mhz): 150; Rating: Catalog; Technology Family: LVC; Voltage(Nom)(V): 1.8,2.5,3.3,5; Schmitt Trigger: No; Output Drive (IOL/IOH)(Max)(mA): 32/-32; tpd @ Nom Voltage(Max)(ns): 20.5,7.1,5.4,3.6; Logic: True; Gate Type: OR; DatasheetVersion: SCES488E; PackageReference: DRY0006A; Supplier 1: Mouser; Supplier Part Number 1: 595-SN74LVC1G27DRYR; Supplier 2: Digi-Key; Supplier Part Number 2: 296-30122-2-ND; Supplier 3: Digi-Key; Supplier Part Number 3: 296-30122-1-ND; Supplier 4: Digi-Key; Supplier Part Number 4: 296-30122-6-ND; Operating Temperature Range(C): -40 to 125,-40 to 85; Sub-Family: NOR Gate; 3-State Output: No; ComponentLink1Description: Manufacturer URL; ComponentLink1URL: http://www.ti.com/; ComponentLink2Description: Datasheet; ComponentLink2URL: http://www.ti.com/lit/ds/symlink/sn74lvc1g27.pdf
footprint DRY0006A_V (SON, 6-Leads, Body 1.45x1mm, Pitch 0.5mm)
part A pins: 1 A (in), 3 B (in), 4 Y (out), 6 C (in)
part B pins: 2 GND (power), 5 VCC (power)

## SN74LVC1G27DSFR
designator U?
Single 3-Input Positive-NOR Gate, DSF0006A, LARGE T&R; Generic Part Number: SN74LVC1G27; Manufacturer: Texas Instruments; PartNumber: SN74LVC1G27DSFR; VCC(Min)(V): 1.65; VCC(Max)(V): 5.5; Output Type: CMOS; ICC @ Nom Voltage(Max)(mA): 0.01; Input Type: CMOS/TTL; Bits(#): 1; F @ Nom Voltage(Max)(Mhz): 150; Rating: Catalog; Technology Family: LVC; Voltage(Nom)(V): 1.8,2.5,3.3,5; Schmitt Trigger: No; Output Drive (IOL/IOH)(Max)(mA): 32/-32; tpd @ Nom Voltage(Max)(ns): 20.5,7.1,5.4,3.6; Logic: True; Gate Type: OR; DatasheetVersion: SCES488E; PackageReference: DSF0006A; Supplier 1: Mouser; Supplier Part Number 1: 595-SN74LVC1G27DSFR; Supplier 2: Digi-Key; Supplier Part Number 2: 296-30123-2-ND; Supplier 3: Digi-Key; Supplier Part Number 3: 296-30123-1-ND; Supplier 4: Digi-Key; Supplier Part Number 4: 296-30123-6-ND; Operating Temperature Range(C): -40 to 125,-40 to 85; Sub-Family: NOR Gate; 3-State Output: No; ComponentLink1Description: Manufacturer URL; ComponentLink1URL: http://www.ti.com/; ComponentLink2Description: Datasheet; ComponentLink2URL: http://www.ti.com/lit/ds/symlink/sn74lvc1g27.pdf
footprint DSF0006A_V (SON, 6-Leads, Body 1x1mm, Pitch 0.35mm, TI Recommend)
part A pins: 1 A (in), 3 B (in), 4 Y (out), 6 C (in)
part B pins: 2 GND (power), 5 VCC (power)

## SN74LVC1G27YZPR
designator U?
Single 3-Input Positive-NOR Gate, YZP0006ADAD, LARGE T&R; Generic Part Number: SN74LVC1G27; Manufacturer: Texas Instruments; PartNumber: SN74LVC1G27YZPR; VCC(Min)(V): 1.65; VCC(Max)(V): 5.5; Output Type: CMOS; ICC @ Nom Voltage(Max)(mA): 0.01; Input Type: CMOS/TTL; Bits(#): 1; F @ Nom Voltage(Max)(Mhz): 150; Rating: Catalog; Technology Family: LVC; Voltage(Nom)(V): 1.8,2.5,3.3,5; Schmitt Trigger: No; Output Drive (IOL/IOH)(Max)(mA): 32/-32; tpd @ Nom Voltage(Max)(ns): 20.5,7.1,5.4,3.6; Logic: True; Gate Type: OR; DatasheetVersion: SCES488E; PackageReference: YZP0006ADAD; Supplier 1: Mouser; Supplier Part Number 1: 595-SN74LVC1G27YZPR; Supplier 2: Digi-Key; Supplier Part Number 2: 296-18766-2-ND; Supplier 3: Digi-Key; Supplier Part Number 3: 296-18766-1-ND; Operating Temperature Range(C): -40 to 125,-40 to 85; Sub-Family: NOR Gate; 3-State Output: No; ComponentLink1Description: Manufacturer URL; ComponentLink1URL: http://www.ti.com/; ComponentLink2Description: Datasheet; ComponentLink2URL: http://www.ti.com/lit/ds/symlink/sn74lvc1g27.pdf
footprint YZP0006ADAD (BGA, 6-Balls, Body 1.39x0.89mm, Pitch 0.5mm)
part A pins: A1 A (in), A2 C (in), C1 B (in), C2 Y (out)
part B pins: B1 GND (power), B2 VCC (power)

## SN74LVC1G29DCTR
designator U?
2-of-3 Decoder/Demultiplexer, DCT0008A, LARGE T&R; Generic Part Number: SN74LVC1G29; Manufacturer: Texas Instruments; PartNumber: SN74LVC1G29DCTR; VCC(Min)(V): 1.65; VCC(Max)(V): 5.5; Output Type: CMOS; ICC @ Nom Voltage(Max)(mA): 0.01; Input Type: CMOS/TTL; Bits(#): 1; F @ Nom Voltage(Max)(Mhz): 150; Rating: Catalog; Technology Family: LVC; Voltage(Nom)(V): 1.8,2.5,3.3,5; Schmitt Trigger: No; Output Drive (IOL/IOH)(Max)(mA): 32/-32; tpd @ Nom Voltage(Max)(ns): 15.8,7.5,6.1,5.1; Logic: True; Sub-Family: Decoder/Encoder/Multiplexer; DatasheetVersion: SCES569C; PackageReference: DCT0008A; Supplier 1: Mouser; Supplier Part Number 1: 595-SN74LVC1G29DCTR; Supplier 2: Digi-Key; Supplier Part Number 2: 296-18767-2-ND; Supplier 3: Digi-Key; Supplier Part Number 3: 296-18767-1-ND; Supplier 4: Digi-Key; Supplier Part Number 4: 296-18767-6-ND; Operating Temperature Range(C): -40 to 85; Specialty Logic Family: Decoder/Encoder/Multiplexer; 3-State Output: No; ComponentLink1Description: Manufacturer URL; ComponentLink1URL: http://www.ti.com/; ComponentLink2Description: Datasheet; ComponentLink2URL: http://www.ti.com/lit/ds/symlink/sn74lvc1g29.pdf
footprint DCT0008A_N (SOP, 8-Leads, Body 2.9x3.2mm, Pitch 0.65mm, IPC Medium Density)
footprint DCT0008A_M (SOP, 8-Leads, Body 2.9x3.2mm, Pitch 0.65mm, IPC Low Density)
footprint DCT0008A_L (SOP, 8-Leads, Body 2.9x3.2mm, Pitch 0.65mm, IPC High Density)
pins: 1 ~{G} (in), 2 Y1 (out), 3 A0 (in), 4 GND (power), 5 Y2 (out), 6 A1 (in), 7 Y0 (out), 8 VCC (power)

## SN74LVC1G29DCUR
designator U?
2-of-3 Decoder/Demultiplexer, DCU0008A, LARGE T&R; Generic Part Number: SN74LVC1G29; Manufacturer: Texas Instruments; PartNumber: SN74LVC1G29DCUR; VCC(Min)(V): 1.65; VCC(Max)(V): 5.5; Output Type: CMOS; ICC @ Nom Voltage(Max)(mA): 0.01; Input Type: CMOS/TTL; Bits(#): 1; F @ Nom Voltage(Max)(Mhz): 150; Rating: Catalog; Technology Family: LVC; Voltage(Nom)(V): 1.8,2.5,3.3,5; Schmitt Trigger: No; Output Drive (IOL/IOH)(Max)(mA): 32/-32; tpd @ Nom Voltage(Max)(ns): 15.8,7.5,6.1,5.1; Logic: True; Sub-Family: Decoder/Encoder/Multiplexer; DatasheetVersion: SCES569C; PackageReference: DCU0008A; Supplier 1: Mouser; Supplier Part Number 1: 595-SN74LVC1G29DCUR; Supplier 2: Digi-Key; Supplier Part Number 2: 296-18768-2-ND; Supplier 3: Digi-Key; Supplier Part Number 3: 296-18768-1-ND; Supplier 4: Digi-Key; Supplier Part Number 4: 296-18768-6-ND; Operating Temperature Range(C): -40 to 85; Specialty Logic Family: Decoder/Encoder/Multiplexer; 3-State Output: No; ComponentLink1Description: Manufacturer URL; ComponentLink1URL: http://www.ti.com/; ComponentLink2Description: Datasheet; ComponentLink2URL: http://www.ti.com/lit/ds/symlink/sn74lvc1g29.pdf
footprint DCU0008A_N (SOP, 8-Leads, Body 2.4x2.1mm, Pitch 0.5mm, IPC Medium Density)
footprint DCU0008A_M (SOP, 8-Leads, Body 2.4x2.1mm, Pitch 0.5mm, IPC Low Density)
footprint DCU0008A_L (SOP, 8-Leads, Body 2.4x2.1mm, Pitch 0.5mm, IPC High Density)
pins: 1 ~{G} (in), 2 Y1 (out), 3 A0 (in), 4 GND (power), 5 Y2 (out), 6 A1 (in), 7 Y0 (out), 8 VCC (power)

## SN74LVC1G29DCUT
designator U?
2-of-3 Decoder/Demultiplexer, DCU0008A, SMALL T&R; Generic Part Number: SN74LVC1G29; Manufacturer: Texas Instruments; PartNumber: SN74LVC1G29DCUT; VCC(Min)(V): 1.65; VCC(Max)(V): 5.5; Output Type: CMOS; ICC @ Nom Voltage(Max)(mA): 0.01; Input Type: CMOS/TTL; Bits(#): 1; F @ Nom Voltage(Max)(Mhz): 150; Rating: Catalog; Technology Family: LVC; Voltage(Nom)(V): 1.8,2.5,3.3,5; Schmitt Trigger: No; Output Drive (IOL/IOH)(Max)(mA): 32/-32; tpd @ Nom Voltage(Max)(ns): 15.8,7.5,6.1,5.1; Logic: True; Sub-Family: Decoder/Encoder/Multiplexer; DatasheetVersion: SCES569C; PackageReference: DCU0008A; Supplier 1: Mouser; Supplier Part Number 1: 595-SN74LVC1G29DCUT; Supplier 2: Digi-Key; Supplier Part Number 2: SN74LVC1G29DCUT-ND; Operating Temperature Range(C): -40 to 85; Specialty Logic Family: Decoder/Encoder/Multiplexer; 3-State Output: No; ComponentLink1Description: Manufacturer URL; ComponentLink1URL: http://www.ti.com/; ComponentLink2Description: Datasheet; ComponentLink2URL: http://www.ti.com/lit/ds/symlink/sn74lvc1g29.pdf
footprint DCU0008A_N (SOP, 8-Leads, Body 2.4x2.1mm, Pitch 0.5mm, IPC Medium Density)
footprint DCU0008A_M (SOP, 8-Leads, Body 2.4x2.1mm, Pitch 0.5mm, IPC Low Density)
footprint DCU0008A_L (SOP, 8-Leads, Body 2.4x2.1mm, Pitch 0.5mm, IPC High Density)
pins: 1 ~{G} (in), 2 Y1 (out), 3 A0 (in), 4 GND (power), 5 Y2 (out), 6 A1 (in), 7 Y0 (out), 8 VCC (power)

## SN74LVC1G29YZPR
designator U?
2-of-3 Decoder/Demultiplexer, YZP0008ADAD, LARGE T&R; Generic Part Number: SN74LVC1G29; Manufacturer: Texas Instruments; PartNumber: SN74LVC1G29YZPR; VCC(Min)(V): 1.65; VCC(Max)(V): 5.5; Output Type: CMOS; ICC @ Nom Voltage(Max)(mA): 0.01; Input Type: CMOS/TTL; Bits(#): 1; F @ Nom Voltage(Max)(Mhz): 150; Rating: Catalog; Technology Family: LVC; Voltage(Nom)(V): 1.8,2.5,3.3,5; Schmitt Trigger: No; Output Drive (IOL/IOH)(Max)(mA): 32/-32; tpd @ Nom Voltage(Max)(ns): 15.8,7.5,6.1,5.1; Logic: True; Sub-Family: Decoder/Encoder/Multiplexer; DatasheetVersion: SCES569C; PackageReference: YZP0008ADAD; Supplier 1: Mouser; Supplier Part Number 1: 595-SN74LVC1G29YZPR; Supplier 2: Digi-Key; Supplier Part Number 2: 296-18769-2-ND; Supplier 3: Digi-Key; Supplier Part Number 3: 296-18769-1-ND; Operating Temperature Range(C): -40 to 85; Specialty Logic Family: Decoder/Encoder/Multiplexer; 3-State Output: No; ComponentLink1Description: Manufacturer URL; ComponentLink1URL: http://www.ti.com/; ComponentLink2Description: Datasheet; ComponentLink2URL: http://www.ti.com/lit/ds/symlink/sn74lvc1g29.pdf
footprint YZP0008ADAD (BGA, 8-Balls, Body 1.89x0.89mm, Pitch 0.5mm)
pins: A1 ~{G} (in), A2 VCC (power), B1 Y1 (out), B2 Y0 (out), C1 A0 (in), C2 A1 (in), D1 GND (power), D2 Y2 (out)

## SN74LVC1G32DBVR
designator U?
Single 2-Input Positive-OR Gate, DBV0005A, LARGE T&R; Generic Part Number: SN74LVC1G32; Manufacturer: Texas Instruments; PartNumber: SN74LVC1G32DBVR; VCC(Min)(V): 1.65; VCC(Max)(V): 5.5; Output Type: CMOS; ICC @ Nom Voltage(Max)(mA): 0.01; Input Type: CMOS/TTL; Bits(#): 1; F @ Nom Voltage(Max)(Mhz): 150; Rating: Catalog; Technology Family: LVC; Voltage(Nom)(V): 1.8,2.5,3.3,5; Schmitt Trigger: No; Output Drive (IOL/IOH)(Max)(mA): 32/-32; tpd @ Nom Voltage(Max)(ns): 7.2,4.4,3.6,3.4; Logic: True; Sub-Family: OR Gate; DatasheetVersion: SCES219U; PackageReference: DBV0005A; Supplier 1: Mouser; Supplier Part Number 1: 595-SN74LVC1G32DBVR; Supplier 2: Digi-Key; Supplier Part Number 2: 296-9847-2-ND; Supplier 3: Digi-Key; Supplier Part Number 3: 296-9847-1-ND; Supplier 4: Digi-Key; Supplier Part Number 4: 296-9847-6-ND; Operating Temperature Range(C): -40 to 125,-40 to 85; 3-State Output: No; ComponentLink1Description: Manufacturer URL; ComponentLink1URL: http://www.ti.com/; ComponentLink2Description: Datasheet; ComponentLink2URL: http://www.ti.com/lit/ds/symlink/sn74lvc1g32.pdf
footprint DBV0005A_N (SOT23, 5-Leads, Body 3.05x1.75mm, Pitch 0.95mm, IPC Medium Density)
footprint DBV0005A_M (SOT23, 5-Leads, Body 3.05x1.75mm, Pitch 0.95mm, IPC Low Density)
footprint DBV0005A_L (SOT23, 5-Leads, Body 3.05x1.75mm, Pitch 0.95mm, IPC High Density)
part A pins: 1 A (in) "Input A", 2 B (in) "Input B", 4 Y (out) "Output Y"
part B pins: 3 GND (power) "Ground Pin", 5 VCC (power) "Power Pin"

## SN74LVC1G32DBVT
designator U?
Single 2-Input Positive-OR Gate, DBV0005A, SMALL T&R; Generic Part Number: SN74LVC1G32; Manufacturer: Texas Instruments; PartNumber: SN74LVC1G32DBVT; VCC(Min)(V): 1.65; VCC(Max)(V): 5.5; Output Type: CMOS; ICC @ Nom Voltage(Max)(mA): 0.01; Input Type: CMOS/TTL; Bits(#): 1; F @ Nom Voltage(Max)(Mhz): 150; Rating: Catalog; Technology Family: LVC; Voltage(Nom)(V): 1.8,2.5,3.3,5; Schmitt Trigger: No; Output Drive (IOL/IOH)(Max)(mA): 32/-32; tpd @ Nom Voltage(Max)(ns): 7.2,4.4,3.6,3.4; Logic: True; Sub-Family: OR Gate; DatasheetVersion: SCES219U; PackageReference: DBV0005A; Supplier 1: Mouser; Supplier Part Number 1: 595-SN74LVC1G32DBVT; Supplier 2: Digi-Key; Supplier Part Number 2: 296-26601-2-ND; Supplier 3: Digi-Key; Supplier Part Number 3: 296-26601-1-ND; Supplier 4: Digi-Key; Supplier Part Number 4: 296-26601-6-ND; Operating Temperature Range(C): -40 to 125,-40 to 85; 3-State Output: No; ComponentLink1Description: Manufacturer URL; ComponentLink1URL: http://www.ti.com/; ComponentLink2Description: Datasheet; ComponentLink2URL: http://www.ti.com/lit/ds/symlink/sn74lvc1g32.pdf
footprint DBV0005A_N (SOT23, 5-Leads, Body 3.05x1.75mm, Pitch 0.95mm, IPC Medium Density)
footprint DBV0005A_M (SOT23, 5-Leads, Body 3.05x1.75mm, Pitch 0.95mm, IPC Low Density)
footprint DBV0005A_L (SOT23, 5-Leads, Body 3.05x1.75mm, Pitch 0.95mm, IPC High Density)
part A pins: 1 A (in) "Input A", 2 B (in) "Input B", 4 Y (out) "Output Y"
part B pins: 3 GND (power) "Ground Pin", 5 VCC (power) "Power Pin"